# Altium footprint library IC_Texas_Instruments_SN74AVC2T244DQMR_eec_IPC_B.PcbLib: 1 footprints
Each footprint in its own frame and in the unit in brackets; x right, y up, seen from the top. Pads: shape width x height; smd on the part's side, far side on the other; paste and mask are expansions set on the pad; w line width, h text height; cw(c..) or ccw(c..) is an arc to the next point about the centre after c.
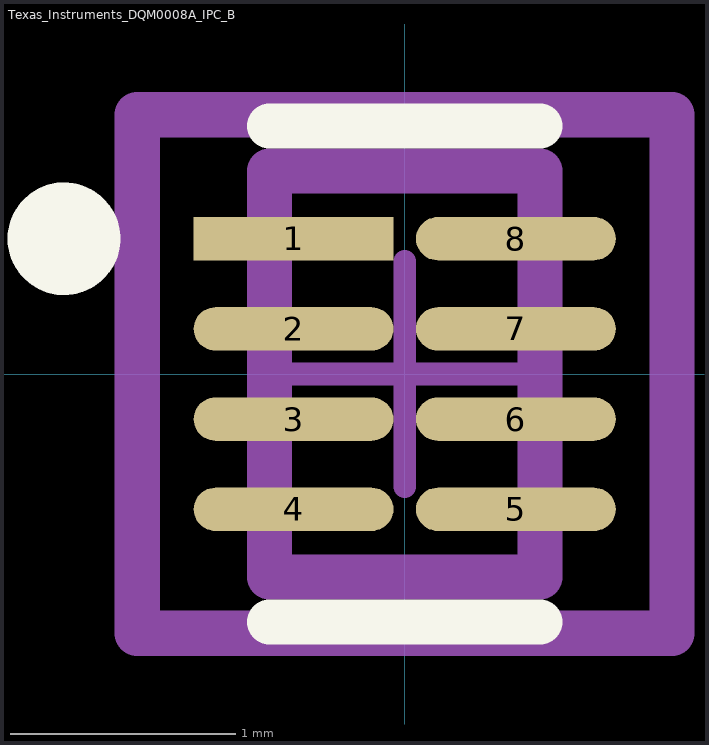
[diagram p0: the footprint, top view; thin cyan lines are the x and y axes]

## Texas_Instruments_DQM0008A_IPC_B [mm]
pads (8):
  rect 0.886x0.192 smd paste+0 mask+0: 1(-0.493,0.6)
  rrect100% 0.886x0.192 smd paste+0 mask+0: 2(-0.493,0.2) 3(-0.493,-0.2) 4(-0.493,-0.6) 5(0.493,-0.6) 6(0.493,-0.2) 7(0.493,0.2) 8(0.493,0.6)
Top Overlay:
  circle w0.25: c-1.511,0.6 r0.125
  lines w0.2: -0.6,-1.1 0.6,-1.1 ; -0.6,1.1 0.6,1.1
Mechanical 10:
  lines w0.2: -1.186,-1.15 1.186,-1.15 1.186,1.15 -1.186,1.15 -1.186,-1.15
  text ".Designator" at 0,0.188 h1
Mechanical 12:
  lines w0.2: -0.6,-0.9 0.6,-0.9 0.6,0.9 -0.6,0.9 -0.6,-0.9
Mechanical 15:
  lines w0.1: -0.5,0 0.5,0 ; 0,-0.5 0,0.5
  lines w0.2: -1.186,-1.15 1.186,-1.15 1.186,1.15 -1.186,1.15 -1.186,-1.15
3D body "IC_Texas_Instruments_SN74AVC2T244DQMR_eec.STEP": height 0.25, standoff 0, extent -1.186,-1.15 1.186,1.15